# Altium schematic symbol library LM317L_C54442801_LM317L_C5444280.schdoc.SCHLIB: 1 symbol
Pins are listed as number, name and electrical type; pins without a type are passive.

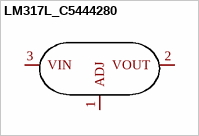
[diagram p0: symbol LM317L_C5444280]

## LM317L_C5444280
designator U??  (value not drawn)
Manufacturer Part: LM317L; Add into BOM: yes; Number of Outputs: 1; Maximum Input Voltage: 40V; Output Voltage: 1.7V~37V; Output Current: 1.5A; Symbol: LM317L_C5444280; Device: LM317L_C5444280; Supplier: LCSC; Supplier Part: C5444280; LCSC Part Name: LM317L; Supplier Footprint: SOT-89; JLCPCB Part Class: Extended Part; Datasheet: https://atta.szlcsc.com/upload/public/pdf/source/20230412/703E44E72FEA4765420A69E1CD3AD9D7.pdf; Convert to PCB: yes
footprint SOT-89-3_L4.5-W2.5-P1.50-LS4.2-BR
pins: 1 ADJ, 2 VOUT, 3 VIN